# Altium integrated library TI Power Management Supervisor and Reset IC.IntLib: 819 symbols (part 1 of 30)
Pins are listed as number, name and electrical type; pins without a type are passive.

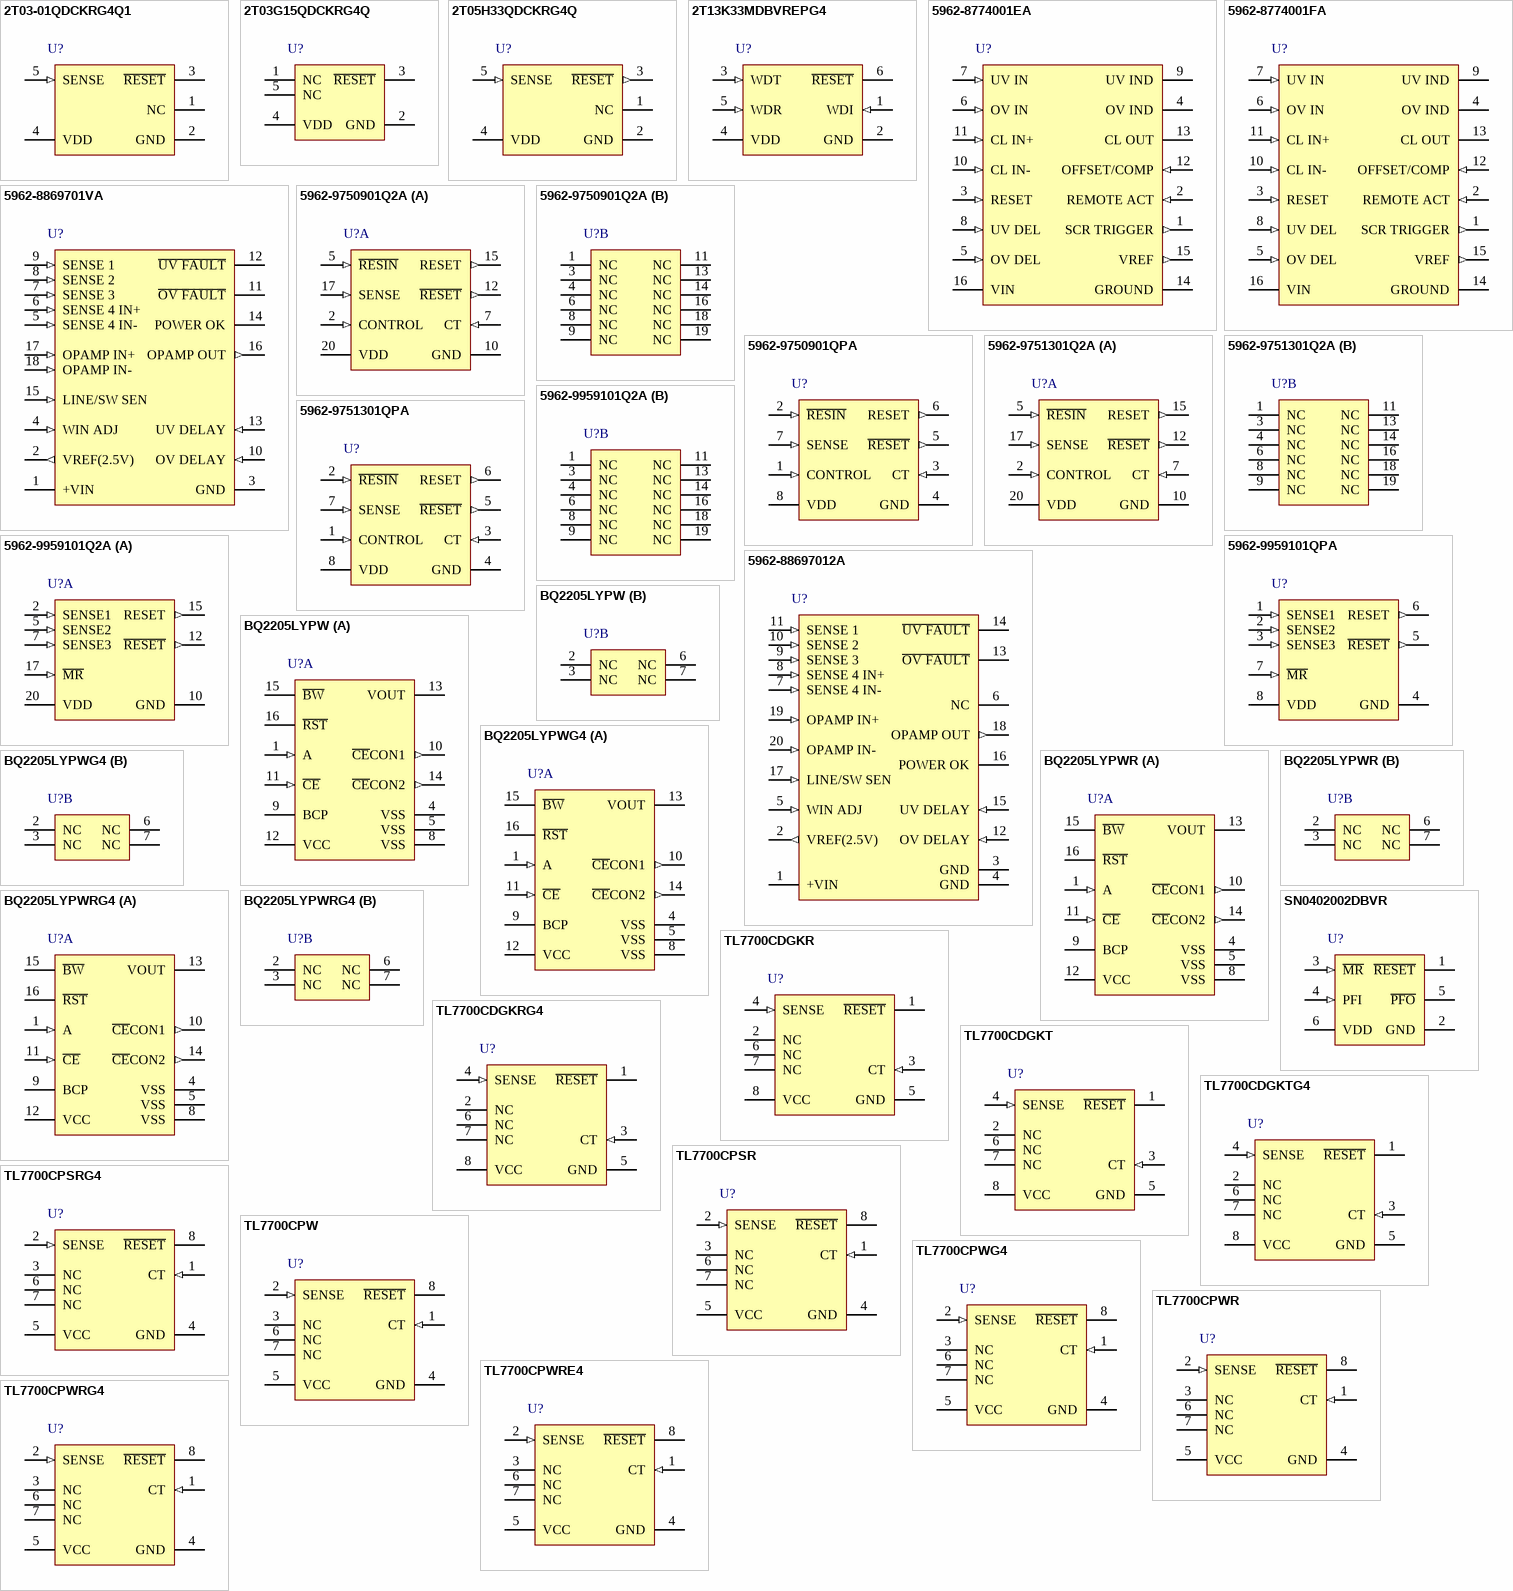
[diagram p0: symbols 2T03-01QDCKRG4Q1 to TL7700CPWRG4]

## 2T03-01QDCKRG4Q1
designator U?
Automotive Catalog Single Voltage Detector, 1 Supply Monitored, -40 to 125 degC, 5-pin SC70 (DCK), Green (RoHS & no Sb/Br); Manufacturer: Texas Instruments; PartNumber: 2T03-01QDCKRG4Q1; # of supplies monitored: 1; Iq(Typ)(uA): 3; Output Driver Type / Reset Output: Active-low, Open-drain; Reset Threshold Accuracy(%): 1.5; SubFamily: Supervisor and Reset IC; Threshold Voltage 1 (typ)(Typ)(V): Adjustable; VCC(Max)(V): 6; VCC(Min)(V): 1.3; DatasheetVersion: SGLS228B; PackageVersion: revG, Jan-2007; PackageReference: DCK5; PackageDescription: 5-Pin Plastic Small-Outline Package, 2 x 1.3 mm Body, 0.65 mm Pitch, 2.1 mm Lead Span; Supplier 1: Digi-Key; Supplier Part Number 1: 2T03-01QDCKRG4Q1-ND; Supplier 2: Mouser; Supplier Part Number 2: 595-2T03-01QDCKRG4Q1; Rating: Automotive; Mounting Technology: Surface Mount; Code_JEDEC: MO-203-AA; ComponentLink1Description: Datasheet; ComponentLink1URL: http://www.ti.com/general/docs/lit/getliterature.tsp?genericPartNumber=TPS3803-01-Q1&fileType=pdf
footprint DCK5_N (SOT353, 5-Leads, Body 2x1.3mm, Pitch 0.65mm, Lead Span 2.1mm, IPC Medium Density)
footprint DCK5_L (SOT353, 5-Leads, Body 2x1.3mm, Pitch 0.65mm, Lead Span 2.1mm, IPC High Density)
footprint DCK5_M (SOT353, 5-Leads, Body 2x1.3mm, Pitch 0.65mm, Lead Span 2.1mm, IPC Low Density)
pins: 1 NC "No internal connection", 2 GND (power) "Ground", 3 ~{RESET} (oc) "Active-low reset output (TPS3803: open drain)", 4 VDD (power) "Input supply voltage, fixed sense input for TPS3803G15 and TPS3805", 5 SENSE (in) "Adjustable sense input"

## 2T03G15QDCKRG4Q
designator U?
Automotive Catalog Single Voltage Detector, 1 Supply Monitored, -40 to 125 degC, 5-pin SC70 (DCK), Green (RoHS & no Sb/Br); Manufacturer: Texas Instruments; PartNumber: 2T03G15QDCKRG4Q; # of supplies monitored: 1; Iq(Typ)(uA): 3; Output Driver Type / Reset Output: Active-low, Open-drain; Reset Threshold Accuracy(%): 1.5; SubFamily: Supervisor and Reset IC; Threshold Voltage 1 (typ)(Typ)(V): 1.4; VCC(Max)(V): 6; VCC(Min)(V): 1.3; DatasheetVersion: SGLS228B; PackageVersion: revG, Jan-2007; PackageReference: DCK5; PackageDescription: 5-Pin Plastic Small-Outline Package, 2 x 1.3 mm Body, 0.65 mm Pitch, 2.1 mm Lead Span; Supplier 1: Digi-Key; Supplier Part Number 1: 296-24491-2-ND; Supplier 2: Digi-Key; Supplier Part Number 2: 296-24491-1-ND; Supplier 3: Digi-Key; Supplier Part Number 3: 296-24491-6-ND; Supplier 4: Newark; Supplier Part Number 4: 09R8976; Supplier 5: Mouser; Supplier Part Number 5: 595-2T03G15QDCKRG4Q; Rating: Automotive; Mounting Technology: Surface Mount; Code_JEDEC: MO-203-AA; ComponentLink1Description: Datasheet; ComponentLink1URL: http://www.ti.com/general/docs/lit/getliterature.tsp?genericPartNumber=TPS3803G15-Q1&fileType=pdf
footprint DCK5_N (SOT353, 5-Leads, Body 2x1.3mm, Pitch 0.65mm, Lead Span 2.1mm, IPC Medium Density)
footprint DCK5_L (SOT353, 5-Leads, Body 2x1.3mm, Pitch 0.65mm, Lead Span 2.1mm, IPC High Density)
footprint DCK5_M (SOT353, 5-Leads, Body 2x1.3mm, Pitch 0.65mm, Lead Span 2.1mm, IPC Low Density)
pins: 1 NC "No internal connection", 2 GND (power) "Ground", 3 ~{RESET} (oc) "Active-low reset output (TPS3803: open drain)", 4 VDD (power) "Input supply voltage, fixed sense input for TPS3803G15 and TPS3805", 5 NC "No internal connection"

## 2T05H33QDCKRG4Q
designator U?
Automotive Catalog Dual Voltage Detector, -40 to 125 degC, 5-pin SC70 (DCK), Green (RoHS & no Sb/Br); Manufacturer: Texas Instruments; PartNumber: 2T05H33QDCKRG4Q; Reset Threshold Accuracy(%): 1.5; SubFamily: Supervisor and Reset IC; Threshold Voltage 1 (typ)(Typ)(V): 3; VCC(Max)(V): 6; VCC(Min)(V): 1.3; DatasheetVersion: SGLS228B; PackageVersion: revG, Jan-2007; PackageReference: DCK5; PackageDescription: 5-Pin Plastic Small-Outline Package, 2 x 1.3 mm Body, 0.65 mm Pitch, 2.1 mm Lead Span; Supplier 1: Digi-Key; Supplier Part Number 1: 2T05H33QDCKRG4Q-ND; Supplier 2: Mouser; Supplier Part Number 2: 595-2T05H33QDCKRG4Q; Rating: Automotive; Mounting Technology: Surface Mount; Code_JEDEC: MO-203-AA; ComponentLink1Description: Datasheet; ComponentLink1URL: http://www.ti.com/general/docs/lit/getliterature.tsp?genericPartNumber=TPS3805H33-Q1&fileType=pdf
footprint DCK5_N (SOT353, 5-Leads, Body 2x1.3mm, Pitch 0.65mm, Lead Span 2.1mm, IPC Medium Density)
footprint DCK5_L (SOT353, 5-Leads, Body 2x1.3mm, Pitch 0.65mm, Lead Span 2.1mm, IPC High Density)
footprint DCK5_M (SOT353, 5-Leads, Body 2x1.3mm, Pitch 0.65mm, Lead Span 2.1mm, IPC Low Density)
pins: 1 NC "No internal connection", 2 GND (power) "Ground", 3 ~{RESET} (out) "Active-low reset output (TPS3803: open drain, TPS3805: push/pull)", 4 VDD (power) "Input supply voltage, fixed sense input for TPS3803G15 and TPS3805", 5 SENSE (in) "Adjustable sense input"

## 2T13K33MDBVREPG4
designator U?
Enhanced Product Processor Supervisory Circuit with Window-Watchdog, 1 Supply Monitored, -55 to 125 degC, 6-pin SOT-23 (DBV), Green (RoHS & no Sb/Br); Manufacturer: Texas Instruments; PartNumber: 2T13K33MDBVREPG4; # of supplies monitored: 1; Iq(Typ)(uA): 9; Output Driver Type / Reset Output: Active-low, Open-drain; Rating: HiRel Enhanced Product; Reset Threshold Accuracy(%): 2.2; SubFamily: Supervisor and Reset IC; Threshold Voltage 1 (typ)(Typ)(V): 2.93; Time Delay(ms): 25; VCC(Max)(V): 6; VCC(Min)(V): 2; Watchdog Timer WDI(sec): Programmable; DatasheetVersion: SGLS343A; PackageVersion: revK, Mar-2006; PackageReference: DBV6; PackageDescription: 6-Pin Plastic Small-Outline Package, 2.9 x 1.6 mm Body, 0.95 mm Pitch, 2.8 mm Lead Span; Supplier 1: Digi-Key; Supplier Part Number 1: 2T13K33MDBVREPG4-ND; Supplier 2: Mouser; Supplier Part Number 2: 595-2T13K33MDBVREPG4; Mounting Technology: Surface Mount; Code_JEDEC: MO-178-AB*; ComponentLink1Description: Datasheet; ComponentLink1URL: http://www.ti.com/general/docs/lit/getliterature.tsp?genericPartNumber=TPS3813K33-EP&fileType=pdf
footprint DBV6_N (SOT23, 6-Leads, Body 2.9x1.6mm, Pitch 0.95mm, Lead Span 2.8mm, IPC Medium Density)
footprint DBV6_L (SOT23, 6-Leads, Body 2.9x1.6mm, Pitch 0.95mm, Lead Span 2.8mm, IPC High Density)
footprint DBV6_M (SOT23, 6-Leads, Body 2.9x1.6mm, Pitch 0.95mm, Lead Span 2.8mm, IPC Low Density)
pins: 1 WDI (in) "Watchdog timer input.", 2 GND (power) "Ground.", 3 WDT (in) "Programmable watchdog delay input.", 4 VDD (power) "Supply voltage and supervising input.", 5 WDR (in) "Selectable watchdog window ratio input.", 6 ~{RESET} (oc) "Open-drain reset output."

## 5962-8774001EA
designator U?
Power Supply Supervisory Circuit, 1 Supply Monitored, -55 to 125 degC, 16-pin CDIP (J),; Manufacturer: Texas Instruments; PartNumber: 5962-8774001EA; # of supplies monitored: 1; Iq(Typ)(uA): 7000; Output Driver Type / Reset Output: Active-low, Open-drain; Rating: Military; SubFamily: Supervisor and Reset IC; Threshold Voltage 1 (typ)(Typ)(V): 2.5; Time Delay(ms): Programmable; VCC(Max)(V): 40; VCC(Min)(V): 4.5; DatasheetVersion: SLUS188A; PackageVersion: revF, Mar-2003; PackageReference: J16; PackageDescription: 16-Pin, Ceramic Dual In-Line Package, Row Spacing 7.62 mm, Pitch 2.54 mm; Reset Threshold Accuracy(%): 1; Mounting Technology: Through Hole; ComponentLink1Description: Datasheet; ComponentLink1URL: http://www.ti.com/general/docs/lit/getliterature.tsp?genericPartNumber=UC1543&fileType=pdf
footprint J16 (DIP, 16-Leads, Row Spacing 7.62mm, Pitch 2.54mm, Body 21.3x6.9mm)
pins: 1 SCR TRIGGER (out), 2 REMOTE ACT (in), 3 RESET (in), 4 OV IND (oc), 5 OV DEL (in), 6 OV IN (in), 7 UV IN (in), 8 UV DEL (in), 9 UV IND (oc), 10 CL IN- (in), 11 CL IN+ (in), 12 OFFSET/COMP (in), 13 CL OUT (oc), 14 GROUND (power), 15 VREF (out), 16 VIN (power)

## 5962-8774001FA
designator U?
Power Supply Supervisory Circuit, 1 Supply Monitored, 16-pin CFP (W); Manufacturer: Texas Instruments; PartNumber: 5962-8774001FA; # of supplies monitored: 1; Iq(Typ)(uA): 7000; Output Driver Type / Reset Output: Active-low, Open-drain; Rating: Military; SubFamily: Supervisor and Reset IC; Threshold Voltage 1 (typ)(Typ)(V): 2.5; Time Delay(ms): Programmable; VCC(Max)(V): 40; VCC(Min)(V): 4.5; DatasheetVersion: SLUS188A; PackageVersion: revD, Jul-2003; PackageReference: W16; PackageDescription: 16-Lead Ceramic Dual Flatpack, Body 10.9 x 7.2 mm (LxW max), Pitch 1.27 mm; Reset Threshold Accuracy(%): 1; Mounting Technology: Surface Mount; Code_JEDEC: MO-092-AC; ComponentLink1Description: Datasheet; ComponentLink1URL: http://www.ti.com/general/docs/lit/getliterature.tsp?genericPartNumber=UC1543&fileType=pdf
footprint W16 (DFP, 16 Leads, Body 10.2x6.7mm, Pitch 1.27mm, Gullwing Leadform)
pins: 1 SCR TRIGGER (out), 2 REMOTE ACT (in), 3 RESET (in), 4 OV IND (oc), 5 OV DEL (in), 6 OV IN (in), 7 UV IN (in), 8 UV DEL (in), 9 UV IND (oc), 10 CL IN- (in), 11 CL IN+ (in), 12 OFFSET/COMP (in), 13 CL OUT (oc), 14 GROUND (power), 15 VREF (out), 16 VIN (power)

## 5962-8869701VA
designator U?
Quad Supply and Line Monitor, 4 Supply Monitored, -55 to 125 degC, 18-pin CDIP (J),; Manufacturer: Texas Instruments; PartNumber: 5962-8869701VA; # of supplies monitored: 4; Iq(Typ)(uA): 7000; Output Driver Type / Reset Output: Active-low, Open-drain; Rating: Military; Reset Threshold Accuracy(%): 3; SubFamily: Supervisor and Reset IC; Threshold Voltage 1 (typ)(Typ)(V): 1.8; Threshold Voltage 2 (typ)(Typ)(V): Adjustable; Time Delay(ms): Programmable; VCC(Max)(V): 40; VCC(Min)(V): 8; DatasheetVersion: SLUS233A; PackageVersion: revF, Mar-2003; PackageReference: J18; PackageDescription: 18-Pin, Ceramic Dual In-Line Package, Row Spacing 7.62 mm, Pitch 2.54 mm; Threshold Voltage 3 (typ)(Typ)(V): Adjustable; Threshold Voltage 4 (typ)(Typ)(V): Adjustable; Mounting Technology: Through Hole; ComponentLink1Description: Datasheet; ComponentLink1URL: http://www.ti.com/general/docs/lit/getliterature.tsp?genericPartNumber=UC1903&fileType=pdf
footprint J18 (DIP, 18-Leads, Row Spacing 7.62mm, Pitch 2.54mm, Body 24.1x6.7mm)
pins: 1 +VIN (power), 2 VREF(2.5V) (out), 3 GND (power), 4 WIN ADJ (in), 5 SENSE 4 IN- (in), 6 SENSE 4 IN+ (in), 7 SENSE 3 (in), 8 SENSE 2 (in), 9 SENSE 1 (in), 10 OV DELAY (in), 11 ~{OV FAULT} (oc), 12 ~{UV FAULT} (oc), 13 UV DELAY (in), 14 POWER OK (oc), 15 LINE/SW SEN (in), 16 OPAMP OUT (out), 17 OPAMP IN+ (in), 18 OPAMP IN- (in)

## 5962-9750901Q2A
designator U?
Single Supply Voltage Supervisor for 3.3 V Systems with Programmable Time Delay, 1 Supply Monitored, -55 to 125 degC, 20-pin LCCC (FK); Manufacturer: Texas Instruments; PartNumber: 5962-9750901Q2A; # of supplies monitored: 1; Iq(Typ)(uA): 9; Output Driver Type / Reset Output: Active-low, Push-pull, Active-high, Push-pull; Rating: Military; Reset Threshold Accuracy(%): 2.4; SubFamily: Supervisor and Reset IC; Threshold Voltage 1 (typ)(Typ)(V): 2.93; VCC(Max)(V): 6; VCC(Min)(V): 2; DatasheetVersion: SLVS087M; PackageVersion: revD, Jan-2011; PackageReference: FK20; PackageDescription: 20-Pin Leadless Ceramic Chip Carrier, 1.27 mm Pitch; Time Delay(ms): Programmable; Mounting Technology: Surface Mount; Code_JEDEC: MS-004; ComponentLink1Description: Datasheet; ComponentLink1URL: http://www.ti.com/general/docs/lit/getliterature.tsp?genericPartNumber=TLC7733M&fileType=pdf
footprint FK20_N (Leadless Chip Carrier, 20-Leads, Body 8.9x8.9mm, Pitch 1.27mm, IPC Medium Density)
footprint FK20_L (Leadless Chip Carrier, 20-Leads, Body 8.9x8.9mm, Pitch 1.27mm, IPC High Density)
footprint FK20_M (Leadless Chip Carrier, 20-Leads, Body 8.9x8.9mm, Pitch 1.27mm, IPC Low Density)
part A pins: 2 CONTROL (in), 5 ~{RESIN} (in), 7 CT (in), 10 GND (power), 12 ~{RESET} (out), 15 RESET (out), 17 SENSE (in), 20 VDD (power)
part B pins: 1 NC, 3 NC, 4 NC, 6 NC, 8 NC, 9 NC, 11 NC, 13 NC, 14 NC, 16 NC, 18 NC, 19 NC

## 5962-9750901QPA
designator U?
Single Supply Voltage Supervisor for 3.3 V Systems with Programmable Time Delay, 1 Supply Monitored, -55 to 125 degC, 8-pin CDIP (JG); Manufacturer: Texas Instruments; PartNumber: 5962-9750901QPA; # of supplies monitored: 1; Iq(Typ)(uA): 9; Output Driver Type / Reset Output: Active-low, Push-pull, Active-high, Push-pull; Rating: Military; Reset Threshold Accuracy(%): 2.4; SubFamily: Supervisor and Reset IC; Threshold Voltage 1 (typ)(Typ)(V): 2.93; VCC(Max)(V): 6; VCC(Min)(V): 2; DatasheetVersion: SLVS087M; PackageVersion: revC, Aug-1996; PackageReference: JG8; PackageDescription: 8-Pin Ceramic Dual-In-Line Package, Row Spacing 7.62 mm, Pitch 2.54 mm; Time Delay(ms): Programmable; Mounting Technology: Through Hole; ComponentLink1Description: Datasheet; ComponentLink1URL: http://www.ti.com/general/docs/lit/getliterature.tsp?genericPartNumber=TLC7733M&fileType=pdf
footprint JG8 (DIP, 8-Leads, Row Spacing 7.62mm, Pitch 2.54mm, Body 9.6x6.7mm)
pins: 1 CONTROL (in), 2 ~{RESIN} (in), 3 CT (in), 4 GND (power), 5 ~{RESET} (out), 6 RESET (out), 7 SENSE (in), 8 VDD (power)

## 5962-9751301Q2A
designator U?
Single Power Supply Voltage Supervisor (5 V) with Programmable Time Delay & Push-Pull Output, 1 Supply Monitored, -55 to 125 degC, 20-pin LCCC (FK); Manufacturer: Texas Instruments; PartNumber: 5962-9751301Q2A; # of supplies monitored: 1; Iq(Typ)(uA): 9; Output Driver Type / Reset Output: Active-low, Push-pull, Active-high, Push-pull; Rating: Military; Reset Threshold Accuracy(%): 1.8; SubFamily: Supervisor and Reset IC; Threshold Voltage 1 (typ)(Typ)(V): 4.55; VCC(Max)(V): 6; VCC(Min)(V): 2; DatasheetVersion: SLVS087M; PackageVersion: revD, Jan-2011; PackageReference: FK20; PackageDescription: 20-Pin Leadless Ceramic Chip Carrier, 1.27 mm Pitch; Time Delay(ms): Programmable; Mounting Technology: Surface Mount; Code_JEDEC: MS-004; ComponentLink1Description: Datasheet; ComponentLink1URL: http://www.ti.com/general/docs/lit/getliterature.tsp?genericPartNumber=TLC7705M&fileType=pdf
footprint FK20_N (Leadless Chip Carrier, 20-Leads, Body 8.9x8.9mm, Pitch 1.27mm, IPC Medium Density)
footprint FK20_L (Leadless Chip Carrier, 20-Leads, Body 8.9x8.9mm, Pitch 1.27mm, IPC High Density)
footprint FK20_M (Leadless Chip Carrier, 20-Leads, Body 8.9x8.9mm, Pitch 1.27mm, IPC Low Density)
part A pins: 2 CONTROL (in), 5 ~{RESIN} (in), 7 CT (in), 10 GND (power), 12 ~{RESET} (out), 15 RESET (out), 17 SENSE (in), 20 VDD (power)
part B pins: 1 NC, 3 NC, 4 NC, 6 NC, 8 NC, 9 NC, 11 NC, 13 NC, 14 NC, 16 NC, 18 NC, 19 NC

## 5962-9751301QPA
designator U?
Single Power Supply Voltage Supervisor (5 V) with Programmable Time Delay & Push-Pull Output, 1 Supply Monitored, -55 to 125 degC, 8-pin CDIP (JG); Manufacturer: Texas Instruments; PartNumber: 5962-9751301QPA; # of supplies monitored: 1; Iq(Typ)(uA): 9; Output Driver Type / Reset Output: Active-low, Push-pull, Active-high, Push-pull; Rating: Military; Reset Threshold Accuracy(%): 1.8; SubFamily: Supervisor and Reset IC; Threshold Voltage 1 (typ)(Typ)(V): 4.55; VCC(Max)(V): 6; VCC(Min)(V): 2; DatasheetVersion: SLVS087M; PackageVersion: revC, Aug-1996; PackageReference: JG8; PackageDescription: 8-Pin Ceramic Dual-In-Line Package, Row Spacing 7.62 mm, Pitch 2.54 mm; Time Delay(ms): Programmable; Mounting Technology: Through Hole; ComponentLink1Description: Datasheet; ComponentLink1URL: http://www.ti.com/general/docs/lit/getliterature.tsp?genericPartNumber=TLC7705M&fileType=pdf
footprint JG8 (DIP, 8-Leads, Row Spacing 7.62mm, Pitch 2.54mm, Body 9.6x6.7mm)
pins: 1 CONTROL (in), 2 ~{RESIN} (in), 3 CT (in), 4 GND (power), 5 ~{RESET} (out), 6 RESET (out), 7 SENSE (in), 8 VDD (power)

## 5962-9959101Q2A
designator U?
Triple Processor Supervisor, 3 Supply Monitored, -55 to 125 degC, 20-pin LCCC (FK); Manufacturer: Texas Instruments; PartNumber: 5962-9959101Q2A; # of supplies monitored: 3; Iq(Typ)(uA): 15; Output Driver Type / Reset Output: Active-low, Push-pull; Rating: Military; Reset Threshold Accuracy(%): 2.7; SubFamily: Supervisor and Reset IC; Threshold Voltage 1 (typ)(Typ)(V): 2.93; Threshold Voltage 2 (typ)(Typ)(V): 1.68; Threshold Voltage 3 (typ)(Typ)(V): Adjustable; Time Delay(ms): 200; VCC(Max)(V): 6; VCC(Min)(V): 2; DatasheetVersion: SGLS133A; PackageVersion: revD, Jan-2011; PackageReference: FK20; PackageDescription: 20-Pin Leadless Ceramic Chip Carrier, 1.27 mm Pitch; Mounting Technology: Surface Mount; Code_JEDEC: MS-004; ComponentLink1Description: Datasheet; ComponentLink1URL: http://www.ti.com/general/docs/lit/getliterature.tsp?genericPartNumber=TPS3307-18M&fileType=pdf
footprint FK20_N (Leadless Chip Carrier, 20-Leads, Body 8.9x8.9mm, Pitch 1.27mm, IPC Medium Density)
footprint FK20_L (Leadless Chip Carrier, 20-Leads, Body 8.9x8.9mm, Pitch 1.27mm, IPC High Density)
footprint FK20_M (Leadless Chip Carrier, 20-Leads, Body 8.9x8.9mm, Pitch 1.27mm, IPC Low Density)
part A pins: 2 SENSE1 (in), 5 SENSE2 (in), 7 SENSE3 (in), 10 GND (power), 12 ~{RESET} (out), 15 RESET (out), 17 ~{MR} (in), 20 VDD (power)
part B pins: 1 NC, 3 NC, 4 NC, 6 NC, 8 NC, 9 NC, 11 NC, 13 NC, 14 NC, 16 NC, 18 NC, 19 NC

## 5962-9959101QPA
designator U?
Triple Processor Supervisor, 3 Supply Monitored, -55 to 125 degC, 8-pin CDIP (JG); Manufacturer: Texas Instruments; PartNumber: 5962-9959101QPA; # of supplies monitored: 3; Iq(Typ)(uA): 15; Output Driver Type / Reset Output: Active-low, Push-pull; Rating: Military; Reset Threshold Accuracy(%): 2.7; SubFamily: Supervisor and Reset IC; Threshold Voltage 1 (typ)(Typ)(V): 2.93; Threshold Voltage 2 (typ)(Typ)(V): 1.68; Threshold Voltage 3 (typ)(Typ)(V): Adjustable; Time Delay(ms): 200; VCC(Max)(V): 6; VCC(Min)(V): 2; DatasheetVersion: SGLS133A; PackageVersion: revC, Aug-1996; PackageReference: JG8; PackageDescription: 8-Pin Ceramic Dual-In-Line Package, Row Spacing 7.62 mm, Pitch 2.54 mm; Mounting Technology: Through Hole; ComponentLink1Description: Datasheet; ComponentLink1URL: http://www.ti.com/general/docs/lit/getliterature.tsp?genericPartNumber=TPS3307-18M&fileType=pdf
footprint JG8 (DIP, 8-Leads, Row Spacing 7.62mm, Pitch 2.54mm, Body 9.6x6.7mm)
pins: 1 SENSE1 (in), 2 SENSE2 (in), 3 SENSE3 (in), 4 GND (power), 5 ~{RESET} (out), 6 RESET (out), 7 ~{MR} (in), 8 VDD (power)

## 5962-88697012A
designator U?
Quad Supply and Line Monitor, 4 Supply Monitored, -55 to 125 degC, 20-pin LCCC (FK),; Manufacturer: Texas Instruments; PartNumber: 5962-88697012A; # of supplies monitored: 4; Iq(Typ)(uA): 7000; Output Driver Type / Reset Output: Active-low, Open-drain; Rating: Military; Reset Threshold Accuracy(%): 3; SubFamily: Supervisor and Reset IC; Threshold Voltage 1 (typ)(Typ)(V): 1.8; Threshold Voltage 2 (typ)(Typ)(V): Adjustable; Time Delay(ms): Programmable; VCC(Max)(V): 40; VCC(Min)(V): 8; DatasheetVersion: SLUS233A; PackageVersion: revD, Jan-2011; PackageReference: FK20; PackageDescription: 20-Pin Leadless Ceramic Chip Carrier, 1.27 mm Pitch; Threshold Voltage 3 (typ)(Typ)(V): Adjustable; Threshold Voltage 4 (typ)(Typ)(V): Adjustable; Mounting Technology: Surface Mount; Code_JEDEC: MS-004; ComponentLink1Description: Datasheet; ComponentLink1URL: http://www.ti.com/general/docs/lit/getliterature.tsp?genericPartNumber=UC1903&fileType=pdf
footprint FK20_N (Leadless Chip Carrier, 20-Leads, Body 8.9x8.9mm, Pitch 1.27mm, IPC Medium Density)
footprint FK20_L (Leadless Chip Carrier, 20-Leads, Body 8.9x8.9mm, Pitch 1.27mm, IPC High Density)
footprint FK20_M (Leadless Chip Carrier, 20-Leads, Body 8.9x8.9mm, Pitch 1.27mm, IPC Low Density)
pins: 1 +VIN (power), 2 VREF(2.5V) (out), 3 GND (power), 4 GND (power), 5 WIN ADJ (in), 6 NC, 7 SENSE 4 IN- (in), 8 SENSE 4 IN+ (in), 9 SENSE 3 (in), 10 SENSE 2 (in), 11 SENSE 1 (in), 12 OV DELAY (in), 13 ~{OV FAULT} (oc), 14 ~{UV FAULT} (oc), 15 UV DELAY (in), 16 POWER OK (oc), 17 LINE/SW SEN (in), 18 OPAMP OUT (out), 19 OPAMP IN+ (in), 20 OPAMP IN- (in)

## BQ2205LYPW
designator U?
Battery Back-up Supervisor for Dual SRAM Banks, 1 Supply Monitored, -20 to 70 degC, 16-pin TSSOP (PW), Green (RoHS & no Sb/Br); Manufacturer: Texas Instruments; PartNumber: BQ2205LYPW; # of supplies monitored: 1; Iq(Typ)(uA): 210; Output Driver Type / Reset Output: Active-low, Open-drain; Rating: Catalog; Reset Threshold Accuracy(%): 1.7; SubFamily: Supervisor and Reset IC; Threshold Voltage 1 (typ)(Typ)(V): 2.9; Time Delay(ms): 30; VCC(Max)(V): 3.6; VCC(Min)(V): 3; DatasheetVersion: SLUS581; PackageVersion: revG, Feb-2011; PackageReference: PW16; PackageDescription: 16-Pin Plastic Thin Small Outline Package 5 x 4.4 mm Body ,0.65 mm Pitch; Supplier 1: Digi-Key; Supplier Part Number 1: 296-16973-5-ND; Supplier 2: Newark; Supplier Part Number 2: 10J9016; Supplier 3: Mouser; Supplier Part Number 3: 595-BQ2205LYPW; Mounting Technology: Surface Mount; Code_JEDEC: MO-153; ComponentLink1Description: Datasheet; ComponentLink1URL: http://www.ti.com/general/docs/lit/getliterature.tsp?genericPartNumber=BQ2205LY&fileType=pdf
footprint PW16_N (TSOP, 16-Leads, Body 5x4.4mm, Pitch 0.65mm, IPC Medium Density)
footprint PW16_L (TSOP, 16-Leads, Body 5x4.4mm, Pitch 0.65mm, IPC High Density)
footprint PW16_M (TSOP, 16-Leads, Body 5x4.4mm, Pitch 0.65mm, IPC Low Density)
part A pins: 1 A (in) "SRAM bank select input", 4 VSS (power) "Ground input", 5 VSS (power) "Ground input", 8 VSS (power) "Ground input", 9 BCP (power) "Backup supply input", 10 ~{CE}CON1 (out) "Conditioned chip enable output 1", 11 ~{CE} (in) "Chip enable input (active low)", 12 VCC (power) "Main supply input", 13 VOUT (power) "SRAM supply output", 14 ~{CE}CON2 (out) "Conditioned chip enable output 2", 15 ~{BW} (oc) "Battery warning output (open-drain)", 16 ~{RST} (oc) "Power-up reset to system CPU output (open-drain)"
part B pins: 2 NC "No connect. These pins must be left floating.", 3 NC "No connect. These pins must be left floating.", 6 NC "No connect. These pins must be left floating.", 7 NC "No connect. These pins must be left floating."

## BQ2205LYPWG4
designator U?
Battery Back-up Supervisor for Dual SRAM Banks, 1 Supply Monitored, -20 to 70 degC, 16-pin TSSOP (PW), Green (RoHS & no Sb/Br); Manufacturer: Texas Instruments; PartNumber: BQ2205LYPWG4; # of supplies monitored: 1; Iq(Typ)(uA): 210; Output Driver Type / Reset Output: Active-low, Open-drain; Rating: Catalog; Reset Threshold Accuracy(%): 1.7; SubFamily: Supervisor and Reset IC; Threshold Voltage 1 (typ)(Typ)(V): 2.9; Time Delay(ms): 30; VCC(Max)(V): 3.6; VCC(Min)(V): 3; DatasheetVersion: SLUS581; PackageVersion: revG, Feb-2011; PackageReference: PW16; PackageDescription: 16-Pin Plastic Thin Small Outline Package 5 x 4.4 mm Body ,0.65 mm Pitch; Supplier 1: Digi-Key; Supplier Part Number 1: BQ2205LYPWG4-ND; Supplier 2: Newark; Supplier Part Number 2: 53K9234; Supplier 3: Mouser; Supplier Part Number 3: 595-BQ2205LYPWG4; Mounting Technology: Surface Mount; Code_JEDEC: MO-153; ComponentLink1Description: Datasheet; ComponentLink1URL: http://www.ti.com/general/docs/lit/getliterature.tsp?genericPartNumber=BQ2205LY&fileType=pdf
footprint PW16_N (TSOP, 16-Leads, Body 5x4.4mm, Pitch 0.65mm, IPC Medium Density)
footprint PW16_L (TSOP, 16-Leads, Body 5x4.4mm, Pitch 0.65mm, IPC High Density)
footprint PW16_M (TSOP, 16-Leads, Body 5x4.4mm, Pitch 0.65mm, IPC Low Density)
part A pins: 1 A (in) "SRAM bank select input", 4 VSS (power) "Ground input", 5 VSS (power) "Ground input", 8 VSS (power) "Ground input", 9 BCP (power) "Backup supply input", 10 ~{CE}CON1 (out) "Conditioned chip enable output 1", 11 ~{CE} (in) "Chip enable input (active low)", 12 VCC (power) "Main supply input", 13 VOUT (power) "SRAM supply output", 14 ~{CE}CON2 (out) "Conditioned chip enable output 2", 15 ~{BW} (oc) "Battery warning output (open-drain)", 16 ~{RST} (oc) "Power-up reset to system CPU output (open-drain)"
part B pins: 2 NC "No connect. These pins must be left floating.", 3 NC "No connect. These pins must be left floating.", 6 NC "No connect. These pins must be left floating.", 7 NC "No connect. These pins must be left floating."

## BQ2205LYPWR
designator U?
Battery Back-up Supervisor for Dual SRAM Banks, 1 Supply Monitored, -20 to 70 degC, 16-pin TSSOP (PW), Green (RoHS & no Sb/Br); Manufacturer: Texas Instruments; PartNumber: BQ2205LYPWR; # of supplies monitored: 1; Iq(Typ)(uA): 210; Output Driver Type / Reset Output: Active-low, Open-drain; Rating: Catalog; Reset Threshold Accuracy(%): 1.7; SubFamily: Supervisor and Reset IC; Threshold Voltage 1 (typ)(Typ)(V): 2.9; Time Delay(ms): 30; VCC(Max)(V): 3.6; VCC(Min)(V): 3; DatasheetVersion: SLUS581; PackageVersion: revG, Feb-2011; PackageReference: PW16; PackageDescription: 16-Pin Plastic Thin Small Outline Package 5 x 4.4 mm Body ,0.65 mm Pitch; Supplier 1: Digi-Key; Supplier Part Number 1: BQ2205LYPWR-ND; Supplier 2: Newark; Supplier Part Number 2: 10J9017; Supplier 3: Mouser; Supplier Part Number 3: 595-BQ2205LYPWR; Mounting Technology: Surface Mount; Code_JEDEC: MO-153; ComponentLink1Description: Datasheet; ComponentLink1URL: http://www.ti.com/general/docs/lit/getliterature.tsp?genericPartNumber=BQ2205LY&fileType=pdf
footprint PW16_N (TSOP, 16-Leads, Body 5x4.4mm, Pitch 0.65mm, IPC Medium Density)
footprint PW16_L (TSOP, 16-Leads, Body 5x4.4mm, Pitch 0.65mm, IPC High Density)
footprint PW16_M (TSOP, 16-Leads, Body 5x4.4mm, Pitch 0.65mm, IPC Low Density)
part A pins: 1 A (in) "SRAM bank select input", 4 VSS (power) "Ground input", 5 VSS (power) "Ground input", 8 VSS (power) "Ground input", 9 BCP (power) "Backup supply input", 10 ~{CE}CON1 (out) "Conditioned chip enable output 1", 11 ~{CE} (in) "Chip enable input (active low)", 12 VCC (power) "Main supply input", 13 VOUT (power) "SRAM supply output", 14 ~{CE}CON2 (out) "Conditioned chip enable output 2", 15 ~{BW} (oc) "Battery warning output (open-drain)", 16 ~{RST} (oc) "Power-up reset to system CPU output (open-drain)"
part B pins: 2 NC "No connect. These pins must be left floating.", 3 NC "No connect. These pins must be left floating.", 6 NC "No connect. These pins must be left floating.", 7 NC "No connect. These pins must be left floating."

## BQ2205LYPWRG4
designator U?
Battery Back-up Supervisor for Dual SRAM Banks, 1 Supply Monitored, -20 to 70 degC, 16-pin TSSOP (PW), Green (RoHS & no Sb/Br); Manufacturer: Texas Instruments; PartNumber: BQ2205LYPWRG4; # of supplies monitored: 1; Iq(Typ)(uA): 210; Output Driver Type / Reset Output: Active-low, Open-drain; Rating: Catalog; Reset Threshold Accuracy(%): 1.7; SubFamily: Supervisor and Reset IC; Threshold Voltage 1 (typ)(Typ)(V): 2.9; Time Delay(ms): 30; VCC(Max)(V): 3.6; VCC(Min)(V): 3; DatasheetVersion: SLUS581; PackageVersion: revG, Feb-2011; PackageReference: PW16; PackageDescription: 16-Pin Plastic Thin Small Outline Package 5 x 4.4 mm Body ,0.65 mm Pitch; Supplier 1: Digi-Key; Supplier Part Number 1: BQ2205LYPWRG4-ND; Supplier 2: Newark; Supplier Part Number 2: 53K9235; Supplier 3: Mouser; Supplier Part Number 3: 595-BQ2205LYPWRG4; Mounting Technology: Surface Mount; Code_JEDEC: MO-153; ComponentLink1Description: Datasheet; ComponentLink1URL: http://www.ti.com/general/docs/lit/getliterature.tsp?genericPartNumber=BQ2205LY&fileType=pdf
footprint PW16_N (TSOP, 16-Leads, Body 5x4.4mm, Pitch 0.65mm, IPC Medium Density)
footprint PW16_L (TSOP, 16-Leads, Body 5x4.4mm, Pitch 0.65mm, IPC High Density)
footprint PW16_M (TSOP, 16-Leads, Body 5x4.4mm, Pitch 0.65mm, IPC Low Density)
part A pins: 1 A (in) "SRAM bank select input", 4 VSS (power) "Ground input", 5 VSS (power) "Ground input", 8 VSS (power) "Ground input", 9 BCP (power) "Backup supply input", 10 ~{CE}CON1 (out) "Conditioned chip enable output 1", 11 ~{CE} (in) "Chip enable input (active low)", 12 VCC (power) "Main supply input", 13 VOUT (power) "SRAM supply output", 14 ~{CE}CON2 (out) "Conditioned chip enable output 2", 15 ~{BW} (oc) "Battery warning output (open-drain)", 16 ~{RST} (oc) "Power-up reset to system CPU output (open-drain)"
part B pins: 2 NC "No connect. These pins must be left floating.", 3 NC "No connect. These pins must be left floating.", 6 NC "No connect. These pins must be left floating.", 7 NC "No connect. These pins must be left floating."

## SN0402002DBVR
designator U?
Ultra-Low Supply Current / Supply-Voltage Supervisory Circuit, 1 Supply Monitored, -40 to 85 degC, 6-pin SOT-23 (DBV),; Manufacturer: Texas Instruments; PartNumber: SN0402002DBVR; # of supplies monitored: 1; Iq(Typ)(uA): 1.2; Output Driver Type / Reset Output: Active-low, Open-drain; Rating: Catalog; Reset Threshold Accuracy(%): 0.75; SubFamily: Supervisor and Reset IC; Threshold Voltage 1 (typ)(Typ)(V): 1.142; Threshold Voltage 2 (typ)(Typ)(V): Adjustable; Time Delay(ms): 130; VCC(Max)(V): 3.3; VCC(Min)(V): 0.4; DatasheetVersion: SLVS363E; PackageVersion: revK, Mar-2006; PackageReference: DBV6; PackageDescription: 6-Pin Plastic Small-Outline Package, 2.9 x 1.6 mm Body, 0.95 mm Pitch, 2.8 mm Lead Span; Supplier 1: Mouser; Supplier Part Number 1: N/A; Mounting Technology: Surface Mount; Code_JEDEC: MO-178-AB*; ComponentLink1Description: Datasheet; ComponentLink1URL: http://www.ti.com/general/docs/lit/getliterature.tsp?genericPartNumber=TPS3103E12&fileType=pdf
footprint DBV6_N (SOT23, 6-Leads, Body 2.9x1.6mm, Pitch 0.95mm, Lead Span 2.8mm, IPC Medium Density)
footprint DBV6_L (SOT23, 6-Leads, Body 2.9x1.6mm, Pitch 0.95mm, Lead Span 2.8mm, IPC High Density)
footprint DBV6_M (SOT23, 6-Leads, Body 2.9x1.6mm, Pitch 0.95mm, Lead Span 2.8mm, IPC Low Density)
pins: 1 ~{RESET} (oc) "Active-low reset output. Either push-pull or open-drain output stage.", 2 GND (power), 3 ~{MR} (in) "Manual-reset input. Pull low to force a reset. R\E\S\E\T\ remains low as long as M\R\ is low and for the timeout period after M\R\ goes high. Leave unconnected or connect to VDD when unused.", 4 PFI (in) "Power-fail input compares to 0.551 V with no additional delay. Connect to VDD if not used.", 5 ~{PFO} (oc) "Power-fail output. Goes high when voltage at PFI rises above 0.551 V.", 6 VDD (power) "Supply voltage. Powers the device and monitors its own voltage."

## TL7700CDGKR
designator U?
Voltage Supervisor, Supply Monitored, -40 to 85 degC, 8-pin VSSOP (DGK), Green (RoHS & no Sb/Br); Manufacturer: Texas Instruments; PartNumber: TL7700CDGKR; Rating: Catalog; Reset Threshold Accuracy(%): 1; SubFamily: Supervisor and Reset IC; Threshold Voltage 1 (typ)(Typ)(V): 2.5; Time Delay(ms): Programmable; VCC(Max)(V): 40; VCC(Min)(V): 1.8; DatasheetVersion: SLVS220F; PackageVersion: revE, May-2006; PackageReference: DGK8; PackageDescription: 8-Pin Thin Small Outline Package 3 x 3 mm Body ,0.65 mm Pitch; Supplier 1: Digi-Key; Supplier Part Number 1: 296-24463-2-ND; Supplier 2: Digi-Key; Supplier Part Number 2: 296-24463-1-ND; Supplier 3: Digi-Key; Supplier Part Number 3: 296-24463-6-ND; Supplier 4: Mouser; Supplier Part Number 4: 595-TL7700CDGKR; Mounting Technology: Surface Mount; Code_JEDEC: MO-187-AA; ComponentLink1Description: Datasheet; ComponentLink1URL: http://www.ti.com/general/docs/lit/getliterature.tsp?genericPartNumber=TL7700&fileType=pdf
footprint DGK8_N (TSOP, 8-Leads, Body 3x3mm, Pitch 0.65mm, IPC Medium Density)
footprint DGK8_L (TSOP, 8-Leads, Body 3x3mm, Pitch 0.65mm, IPC High Density)
footprint DGK8_M (TSOP, 8-Leads, Body 3x3mm, Pitch 0.65mm, IPC Low Density)
pins: 1 ~{RESET} (oc) "Reset output. This terminal can be connected directly to a system that resets in the active-low state.A pullup resistor usually is required because the output is an npn open-collector transistor. An additional transistor (See Datasheet)", 2 NC "No internal connection", 3 CT (in) "Timing capacitor connection. This terminal sets the RESET output pulse duration (tpo). It is connected internally to a 15-uA constant-current source. There is a limit on the switching speed of internal elements; even if CT (See Datasheet)", 4 SENSE (in) "Voltage sense. This terminal has a threshold level of 500 mV. The sense voltage and hysteresis can be set at the same time when the two voltage-dividing resistors are connected. The reference voltage is temperature (See Datasheet)", 5 GND (power) "Ground. Keep this terminal as low impedance to reduce circuit noise.", 6 NC "No internal connection", 7 NC "No internal connection", 8 VCC (power) "Power supply. This terminal is used in an operating-voltage range of 1.8 V to 40 V."

## TL7700CDGKRG4
designator U?
Voltage Supervisor, Supply Monitored, -40 to 85 degC, 8-pin VSSOP (DGK), Green (RoHS & no Sb/Br); Manufacturer: Texas Instruments; PartNumber: TL7700CDGKRG4; Rating: Catalog; Reset Threshold Accuracy(%): 1; SubFamily: Supervisor and Reset IC; Threshold Voltage 1 (typ)(Typ)(V): 2.5; Time Delay(ms): Programmable; VCC(Max)(V): 40; VCC(Min)(V): 1.8; DatasheetVersion: SLVS220F; PackageVersion: revE, May-2006; PackageReference: DGK8; PackageDescription: 8-Pin Thin Small Outline Package 3 x 3 mm Body ,0.65 mm Pitch; Supplier 1: Digi-Key; Supplier Part Number 1: TL7700CDGKRG4-ND; Supplier 2: Mouser; Supplier Part Number 2: 595-TL7700CDGKRG4; Mounting Technology: Surface Mount; Code_JEDEC: MO-187-AA; ComponentLink1Description: Datasheet; ComponentLink1URL: http://www.ti.com/general/docs/lit/getliterature.tsp?genericPartNumber=TL7700&fileType=pdf
footprint DGK8_N (TSOP, 8-Leads, Body 3x3mm, Pitch 0.65mm, IPC Medium Density)
footprint DGK8_L (TSOP, 8-Leads, Body 3x3mm, Pitch 0.65mm, IPC High Density)
footprint DGK8_M (TSOP, 8-Leads, Body 3x3mm, Pitch 0.65mm, IPC Low Density)
pins: 1 ~{RESET} (oc) "Reset output. This terminal can be connected directly to a system that resets in the active-low state.A pullup resistor usually is required because the output is an npn open-collector transistor. An additional transistor (See Datasheet)", 2 NC "No internal connection", 3 CT (in) "Timing capacitor connection. This terminal sets the RESET output pulse duration (tpo). It is connected internally to a 15-uA constant-current source. There is a limit on the switching speed of internal elements; even if CT (See Datasheet)", 4 SENSE (in) "Voltage sense. This terminal has a threshold level of 500 mV. The sense voltage and hysteresis can be set at the same time when the two voltage-dividing resistors are connected. The reference voltage is temperature (See Datasheet)", 5 GND (power) "Ground. Keep this terminal as low impedance to reduce circuit noise.", 6 NC "No internal connection", 7 NC "No internal connection", 8 VCC (power) "Power supply. This terminal is used in an operating-voltage range of 1.8 V to 40 V."

## TL7700CDGKT
designator U?
Voltage Supervisor, Supply Monitored, -40 to 85 degC, 8-pin VSSOP (DGK), Green (RoHS & no Sb/Br); Manufacturer: Texas Instruments; PartNumber: TL7700CDGKT; Rating: Catalog; Reset Threshold Accuracy(%): 1; SubFamily: Supervisor and Reset IC; Threshold Voltage 1 (typ)(Typ)(V): 2.5; Time Delay(ms): Programmable; VCC(Max)(V): 40; VCC(Min)(V): 1.8; DatasheetVersion: SLVS220F; PackageVersion: revE, May-2006; PackageReference: DGK8; PackageDescription: 8-Pin Thin Small Outline Package 3 x 3 mm Body ,0.65 mm Pitch; Supplier 1: Digi-Key; Supplier Part Number 1: 296-32359-2-ND; Supplier 2: Digi-Key; Supplier Part Number 2: 296-32359-1-ND; Supplier 3: Digi-Key; Supplier Part Number 3: 296-32359-6-ND; Supplier 4: Farnell; Supplier Part Number 4: 1755284; Supplier 5: Newark; Supplier Part Number 5: 34R9139; Supplier 6: Mouser; Supplier Part Number 6: 595-TL7700CDGKT; Mounting Technology: Surface Mount; Code_JEDEC: MO-187-AA; ComponentLink1Description: Datasheet; ComponentLink1URL: http://www.ti.com/general/docs/lit/getliterature.tsp?genericPartNumber=TL7700&fileType=pdf
footprint DGK8_N (TSOP, 8-Leads, Body 3x3mm, Pitch 0.65mm, IPC Medium Density)
footprint DGK8_L (TSOP, 8-Leads, Body 3x3mm, Pitch 0.65mm, IPC High Density)
footprint DGK8_M (TSOP, 8-Leads, Body 3x3mm, Pitch 0.65mm, IPC Low Density)
pins: 1 ~{RESET} (oc) "Reset output. This terminal can be connected directly to a system that resets in the active-low state.A pullup resistor usually is required because the output is an npn open-collector transistor. An additional transistor (See Datasheet)", 2 NC "No internal connection", 3 CT (in) "Timing capacitor connection. This terminal sets the RESET output pulse duration (tpo). It is connected internally to a 15-uA constant-current source. There is a limit on the switching speed of internal elements; even if CT (See Datasheet)", 4 SENSE (in) "Voltage sense. This terminal has a threshold level of 500 mV. The sense voltage and hysteresis can be set at the same time when the two voltage-dividing resistors are connected. The reference voltage is temperature (See Datasheet)", 5 GND (power) "Ground. Keep this terminal as low impedance to reduce circuit noise.", 6 NC "No internal connection", 7 NC "No internal connection", 8 VCC (power) "Power supply. This terminal is used in an operating-voltage range of 1.8 V to 40 V."

## TL7700CDGKTG4
designator U?
Voltage Supervisor, Supply Monitored, -40 to 85 degC, 8-pin VSSOP (DGK), Green (RoHS & no Sb/Br); Manufacturer: Texas Instruments; PartNumber: TL7700CDGKTG4; Rating: Catalog; Reset Threshold Accuracy(%): 1; SubFamily: Supervisor and Reset IC; Threshold Voltage 1 (typ)(Typ)(V): 2.5; Time Delay(ms): Programmable; VCC(Max)(V): 40; VCC(Min)(V): 1.8; DatasheetVersion: SLVS220F; PackageVersion: revE, May-2006; PackageReference: DGK8; PackageDescription: 8-Pin Thin Small Outline Package 3 x 3 mm Body ,0.65 mm Pitch; Supplier 1: Digi-Key; Supplier Part Number 1: TL7700CDGKTG4-ND; Supplier 2: Mouser; Supplier Part Number 2: 595-TL7700CDGKTG4; Mounting Technology: Surface Mount; Code_JEDEC: MO-187-AA; ComponentLink1Description: Datasheet; ComponentLink1URL: http://www.ti.com/general/docs/lit/getliterature.tsp?genericPartNumber=TL7700&fileType=pdf
footprint DGK8_N (TSOP, 8-Leads, Body 3x3mm, Pitch 0.65mm, IPC Medium Density)
footprint DGK8_L (TSOP, 8-Leads, Body 3x3mm, Pitch 0.65mm, IPC High Density)
footprint DGK8_M (TSOP, 8-Leads, Body 3x3mm, Pitch 0.65mm, IPC Low Density)
pins: 1 ~{RESET} (oc) "Reset output. This terminal can be connected directly to a system that resets in the active-low state.A pullup resistor usually is required because the output is an npn open-collector transistor. An additional transistor (See Datasheet)", 2 NC "No internal connection", 3 CT (in) "Timing capacitor connection. This terminal sets the RESET output pulse duration (tpo). It is connected internally to a 15-uA constant-current source. There is a limit on the switching speed of internal elements; even if CT (See Datasheet)", 4 SENSE (in) "Voltage sense. This terminal has a threshold level of 500 mV. The sense voltage and hysteresis can be set at the same time when the two voltage-dividing resistors are connected. The reference voltage is temperature (See Datasheet)", 5 GND (power) "Ground. Keep this terminal as low impedance to reduce circuit noise.", 6 NC "No internal connection", 7 NC "No internal connection", 8 VCC (power) "Power supply. This terminal is used in an operating-voltage range of 1.8 V to 40 V."

## TL7700CPSR
designator U?
Voltage Supervisor, Supply Monitored, -40 to 85 degC, 8-pin SO (PS), Green (RoHS & no Sb/Br); Manufacturer: Texas Instruments; PartNumber: TL7700CPSR; Rating: Catalog; Reset Threshold Accuracy(%): 1; SubFamily: Supervisor and Reset IC; Threshold Voltage 1 (typ)(Typ)(V): 2.5; Time Delay(ms): Programmable; VCC(Max)(V): 40; VCC(Min)(V): 1.8; DatasheetVersion: SLVS220F; PackageVersion: revC, Mar-2003; PackageReference: PS8; PackageDescription: 8-Pin Plastic Small Outline Package, 6.2 x 5.3 mm, Pitch 1.27 mm Pitch; Supplier 1: Digi-Key; Supplier Part Number 1: 296-8015-2-ND; Supplier 2: Digi-Key; Supplier Part Number 2: 296-8015-1-ND; Supplier 3: Digi-Key; Supplier Part Number 3: 296-8015-6-ND; Supplier 4: Newark; Supplier Part Number 4: 05H9472; Supplier 5: Mouser; Supplier Part Number 5: 595-TL7700CPSR; Mounting Technology: Surface Mount; ComponentLink1Description: Datasheet; ComponentLink1URL: http://www.ti.com/general/docs/lit/getliterature.tsp?genericPartNumber=TL7700&fileType=pdf
footprint PS8_N (SOP, 8-Leads, Body 6.2x5.3mm, Pitch 1.27mm, IPC Medium Density)
footprint PS8_L (SOP, 8-Leads, Body 6.2x5.3mm, Pitch 1.27mm, IPC High Density)
footprint PS8_M (SOP, 8-Leads, Body 6.2x5.3mm, Pitch 1.27mm, IPC Low Density)
pins: 1 CT (in) "Timing capacitor connection. This terminal sets the RESET output pulse duration (tpo). It is connected internally to a 15-uA constant-current source. There is a limit on the switching speed of internal elements; even if CT (See Datasheet)", 2 SENSE (in) "Voltage sense. This terminal has a threshold level of 500 mV. The sense voltage and hysteresis can be set at the same time when the two voltage-dividing resistors are connected. The reference voltage is temperature (See Datasheet)", 3 NC "No internal connection", 4 GND (power) "Ground. Keep this terminal as low impedance to reduce circuit noise.", 5 VCC (power) "Power supply. This terminal is used in an operating-voltage range of 1.8 V to 40 V.", 6 NC "No internal connection", 7 NC "No internal connection", 8 ~{RESET} (oc) "Reset output. This terminal can be connected directly to a system that resets in the active-low state. A pullup resistor usually is required because the output is an npn open-collector transistor. An additional transistor (See Datasheet)"

## TL7700CPSRG4
designator U?
Voltage Supervisor, Supply Monitored, -40 to 85 degC, 8-pin SO (PS), Green (RoHS & no Sb/Br); Manufacturer: Texas Instruments; PartNumber: TL7700CPSRG4; Rating: Catalog; Reset Threshold Accuracy(%): 1; SubFamily: Supervisor and Reset IC; Threshold Voltage 1 (typ)(Typ)(V): 2.5; Time Delay(ms): Programmable; VCC(Max)(V): 40; VCC(Min)(V): 1.8; DatasheetVersion: SLVS220F; PackageVersion: revC, Mar-2003; PackageReference: PS8; PackageDescription: 8-Pin Plastic Small Outline Package, 6.2 x 5.3 mm, Pitch 1.27 mm Pitch; Supplier 1: Digi-Key; Supplier Part Number 1: TL7700CPSRG4-ND; Supplier 2: Newark; Supplier Part Number 2: 40K9724; Supplier 3: Mouser; Supplier Part Number 3: 595-TL7700CPSRG4; Mounting Technology: Surface Mount; ComponentLink1Description: Datasheet; ComponentLink1URL: http://www.ti.com/general/docs/lit/getliterature.tsp?genericPartNumber=TL7700&fileType=pdf
footprint PS8_N (SOP, 8-Leads, Body 6.2x5.3mm, Pitch 1.27mm, IPC Medium Density)
footprint PS8_L (SOP, 8-Leads, Body 6.2x5.3mm, Pitch 1.27mm, IPC High Density)
footprint PS8_M (SOP, 8-Leads, Body 6.2x5.3mm, Pitch 1.27mm, IPC Low Density)
pins: 1 CT (in) "Timing capacitor connection. This terminal sets the RESET output pulse duration (tpo). It is connected internally to a 15-uA constant-current source. There is a limit on the switching speed of internal elements; even if CT (See Datasheet)", 2 SENSE (in) "Voltage sense. This terminal has a threshold level of 500 mV. The sense voltage and hysteresis can be set at the same time when the two voltage-dividing resistors are connected. The reference voltage is temperature (See Datasheet)", 3 NC "No internal connection", 4 GND (power) "Ground. Keep this terminal as low impedance to reduce circuit noise.", 5 VCC (power) "Power supply. This terminal is used in an operating-voltage range of 1.8 V to 40 V.", 6 NC "No internal connection", 7 NC "No internal connection", 8 ~{RESET} (oc) "Reset output. This terminal can be connected directly to a system that resets in the active-low state. A pullup resistor usually is required because the output is an npn open-collector transistor. An additional transistor (See Datasheet)"

## TL7700CPW
designator U?
Voltage Supervisor, Supply Monitored, -40 to 85 degC, 8-pin TSSOP (PW), Green (RoHS & no Sb/Br); Manufacturer: Texas Instruments; PartNumber: TL7700CPW; Rating: Catalog; Reset Threshold Accuracy(%): 1; SubFamily: Supervisor and Reset IC; Threshold Voltage 1 (typ)(Typ)(V): 2.5; Time Delay(ms): Programmable; VCC(Max)(V): 40; VCC(Min)(V): 1.8; DatasheetVersion: SLVS220F; PackageVersion: revG, Feb-2011; PackageReference: PW8; PackageDescription: 8-Pin Plastic Thin Small Outline Package 3 x 4.4 mm Body ,0.65 mm Pitch; Supplier 1: Digi-Key; Supplier Part Number 1: 296-26725-5-ND; Supplier 2: Newark; Supplier Part Number 2: 22H1303; Supplier 3: Mouser; Supplier Part Number 3: 595-TL7700CPW; Mounting Technology: Surface Mount; Code_JEDEC: MO-153; ComponentLink1Description: Datasheet; ComponentLink1URL: http://www.ti.com/general/docs/lit/getliterature.tsp?genericPartNumber=TL7700&fileType=pdf
footprint PW8_N (TSOP, 8-Leads, Body 3x4.4mm, Pitch 0.65mm, IPC Medium Density)
footprint PW8_L (TSOP, 8-Leads, Body 3x4.4mm, Pitch 0.65mm, IPC High Density)
footprint PW8_M (TSOP, 8-Leads, Body 3x4.4mm, Pitch 0.65mm, IPC Low Density)
pins: 1 CT (in) "Timing capacitor connection. This terminal sets the RESET output pulse duration (tpo). It is connected internally to a 15-uA constant-current source. There is a limit on the switching speed of internal elements; even if CT (See Datasheet)", 2 SENSE (in) "Voltage sense. This terminal has a threshold level of 500 mV. The sense voltage and hysteresis can be set at the same time when the two voltage-dividing resistors are connected. The reference voltage is temperature (See Datasheet)", 3 NC "No internal connection", 4 GND (power) "Ground. Keep this terminal as low impedance to reduce circuit noise.", 5 VCC (power) "Power supply. This terminal is used in an operating-voltage range of 1.8 V to 40 V.", 6 NC "No internal connection", 7 NC "No internal connection", 8 ~{RESET} (oc) "Reset output. This terminal can be connected directly to a system that resets in the active-low state. A pullup resistor usually is required because the output is an npn open-collector transistor. An additional transistor (See Datasheet)"

## TL7700CPWG4
designator U?
Voltage Supervisor, Supply Monitored, -40 to 85 degC, 8-pin TSSOP (PW), Green (RoHS & no Sb/Br); Manufacturer: Texas Instruments; PartNumber: TL7700CPWG4; Rating: Catalog; Reset Threshold Accuracy(%): 1; SubFamily: Supervisor and Reset IC; Threshold Voltage 1 (typ)(Typ)(V): 2.5; Time Delay(ms): Programmable; VCC(Max)(V): 40; VCC(Min)(V): 1.8; DatasheetVersion: SLVS220F; PackageVersion: revG, Feb-2011; PackageReference: PW8; PackageDescription: 8-Pin Plastic Thin Small Outline Package 3 x 4.4 mm Body ,0.65 mm Pitch; Supplier 1: Digi-Key; Supplier Part Number 1: TL7700CPWG4-ND; Supplier 2: Newark; Supplier Part Number 2: 46M9295; Supplier 3: Mouser; Supplier Part Number 3: 595-TL7700CPWG4; Mounting Technology: Surface Mount; Code_JEDEC: MO-153; ComponentLink1Description: Datasheet; ComponentLink1URL: http://www.ti.com/general/docs/lit/getliterature.tsp?genericPartNumber=TL7700&fileType=pdf
footprint PW8_N (TSOP, 8-Leads, Body 3x4.4mm, Pitch 0.65mm, IPC Medium Density)
footprint PW8_L (TSOP, 8-Leads, Body 3x4.4mm, Pitch 0.65mm, IPC High Density)
footprint PW8_M (TSOP, 8-Leads, Body 3x4.4mm, Pitch 0.65mm, IPC Low Density)
pins: 1 CT (in) "Timing capacitor connection. This terminal sets the RESET output pulse duration (tpo). It is connected internally to a 15-uA constant-current source. There is a limit on the switching speed of internal elements; even if CT (See Datasheet)", 2 SENSE (in) "Voltage sense. This terminal has a threshold level of 500 mV. The sense voltage and hysteresis can be set at the same time when the two voltage-dividing resistors are connected. The reference voltage is temperature (See Datasheet)", 3 NC "No internal connection", 4 GND (power) "Ground. Keep this terminal as low impedance to reduce circuit noise.", 5 VCC (power) "Power supply. This terminal is used in an operating-voltage range of 1.8 V to 40 V.", 6 NC "No internal connection", 7 NC "No internal connection", 8 ~{RESET} (oc) "Reset output. This terminal can be connected directly to a system that resets in the active-low state. A pullup resistor usually is required because the output is an npn open-collector transistor. An additional transistor (See Datasheet)"